# EAGLE library part TJA1048T (library Goodies)
The TJA1048 is a dual high-speed CAN transceiver that provides an interface between a Controller Area Network (CAN) protocol controller and the physical two-wire CAN bus.
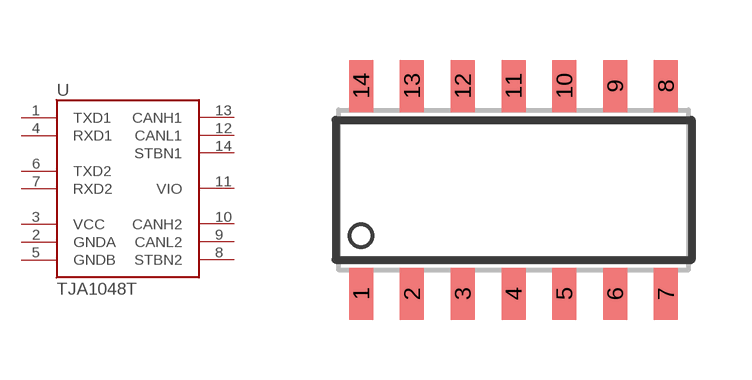
[diagram p4: symbol with the pads of SO14; footprint SO14]

Designator prefix U

## TJA1048T  [SO14]
1  TXD1  out
2  GNDA  pwr
3  VCC  pwr
4  RXD1  in
5  GNDB  pwr
6  TXD2  out
7  RXD2  in
8  STBN2  in
9  CANL2  in
10  CANH2  in
11  VIO  pwr
12  CANL1  in
13  CANH1  in
14  STBN1  in

## Footprint SO14 (pad centres in mm)
FOOTPRINT UNTESTED Footprint based on TJ1048T SO14 (SOT108-1 NXP) plastic smal loutline package 14 leads bodywidth: 3.9mm body thickness: 1.47mm
smd 0.6 x 1.3: 1 -3.81,-2.6; 2 -2.54,-2.6; 3 -1.27,-2.6; 4 0,-2.6; 5 1.27,-2.6; 6 2.54,-2.6; 7 3.81,-2.6; 8 3.81,2.6; 9 2.54,2.6; 10 1.27,2.6; 11 0,2.6; 12 -1.27,2.6; 13 -2.54,2.6; 14 -3.81,2.6